# Altium schematic symbol library 18432Crystal.SchLib: 2 symbols
Pins are listed as number, name and electrical type; pins without a type are passive.

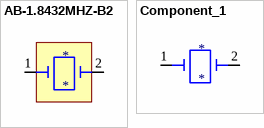
[diagram p0: symbols AB-1.8432MHZ-B2 to Component_1]

## AB-1.8432MHZ-B2
designator *
Crystal 1.8432MHz
footprint PCBComponent_1
pins: 1 2, 2

## Component_1
designator *
footprint PCBComponent_1
pins: 1 2, 2